# Altium schematic symbol library ADP7173.SchLib: 1 symbol
Pins are listed as number, name and electrical type; pins without a type are passive.

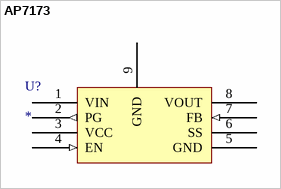
[diagram p0: symbol AP7173]

## AP7173
designator U?
The AP7173 is a 1.5A low-dropout (LDO) linear regulator that / features a user-programmable soft-start, an enable input and / a power-good output.
footprint AP7173 (SOP, 8-Leads, Body 4,90x3,90mm, Pitch 1,27mm, Thermal Pad 3,35x2,45mm, IPC Medium Density)
pins: 1 VIN (power), 2 PG (out), 3 VCC (power), 4 EN (in), 5 GND (power), 6 SS (power), 7 FB (in), 8 VOUT (power), 9 GND (power)